# EAGLE library part GSM-MODEM-SIM900A (library diy-modules)
GSM Mini Module based on SIM900A Schematic available here: http://www.electrodragon.com/w/SIM900_(SIM900A)_Mini_DEV_Board
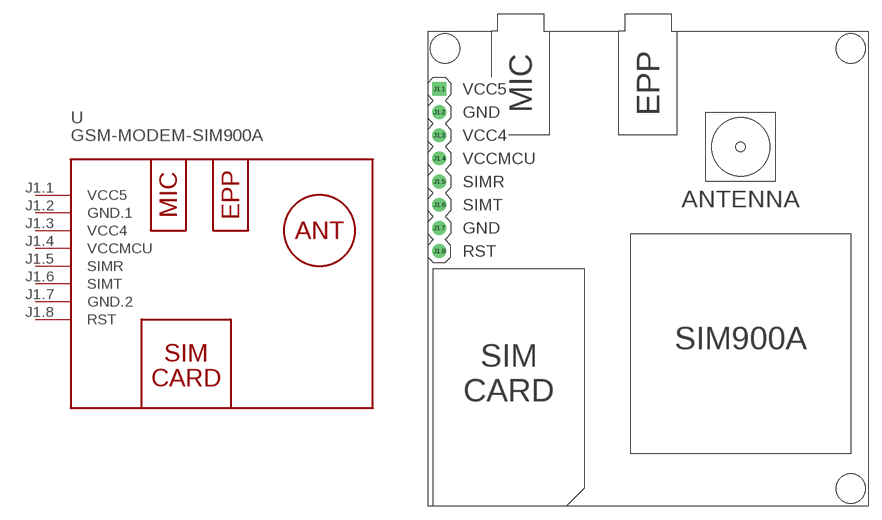
[diagram p13: symbol with the pads of GSM-MODEM-SIM900A; footprint GSM-MODEM-SIM900A]

Designator prefix -

## GSM-MODEM-SIM900A  [GSM-MODEM-SIM900A]
J1.1  VCC5  pwr
J1.2  GND.1  pwr
J1.3  VCC4  pwr
J1.4  VCCMCU  pwr
J1.5  SIMR
J1.6  SIMT
J1.7  GND.2  pwr
J1.8  RST

## Footprint GSM-MODEM-SIM900A (pad centres in mm)
GSM Mini Module based on SIM900A
drill 1 square: J1.1 -22.86,20.32
drill 1: J1.2 -22.86,17.78; J1.3 -22.86,15.24; J1.4 -22.86,12.7; J1.5 -22.86,10.16; J1.6 -22.86,7.62; J1.7 -22.86,5.08; J1.8 -22.86,2.54
hole 3.2 at -22.225,24.765
hole 3.2 at 22.225,24.765
hole 3.2 at 22.225,-23.495